# EAGLE library part IS25LP016D-JULE-TR (library SamacSys_Parts)
IC FLASH 16M SPI 133MHZ 8USON Source: Datasheet <http://www.issi.com/WW/pdf/25LP-WP016D.pdf>
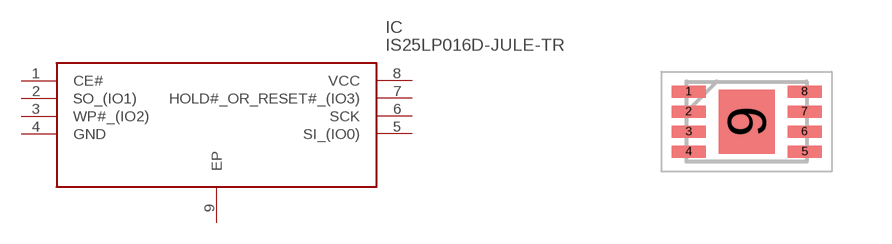
[diagram p82: symbol with the pads of SON50P300X200X60-9N; footprint SON50P300X200X60-9N]

Designator prefix IC

## IS25LP016D-JULE-TR (DESCRIPTION: IC FLASH 16M SPI 133MHZ 8USON; HEIGHT: 0.6mm; MANUFACTURER_NAME: Integrated Silicon Solution Inc.; MANUFACTURER_PART_NUMBER: IS25LP016D-JULE-TR; MOUSER_PART_NUMBER: 870-IS25LP016DJULETR; MOUSER_PRICE-STOCK: https://www.mouser.co.uk/ProductDetail/ISSI/IS25LP016D-JULE-TR?qs=W0yvOO0ixfFZpqcil7LLEw%3D%3D)  [SON50P300X200X60-9N]
1  CE#
2  SO_(IO1)
3  WP#_(IO2)
4  GND
5  SI_(IO0)
6  SCK
7  HOLD#_OR_RESET#_(IO3)
8  VCC
9  EP

## Footprint SON50P300X200X60-9N (pad centres in mm)
8-Lead Plastic DFN (MN)
smd 0.85 x 0.3: 1 -1.45,0.75; 2 -1.45,0.25; 3 -1.45,-0.25; 4 -1.45,-0.75; 5 1.45,-0.75; 6 1.45,-0.25; 7 1.45,0.25; 8 1.45,0.75
smd 1.4 x 1.6: 9 0,0